# Altium integrated library Renesas Microprocessor SuperH.IntLib: 433 symbols (part 2 of 62)
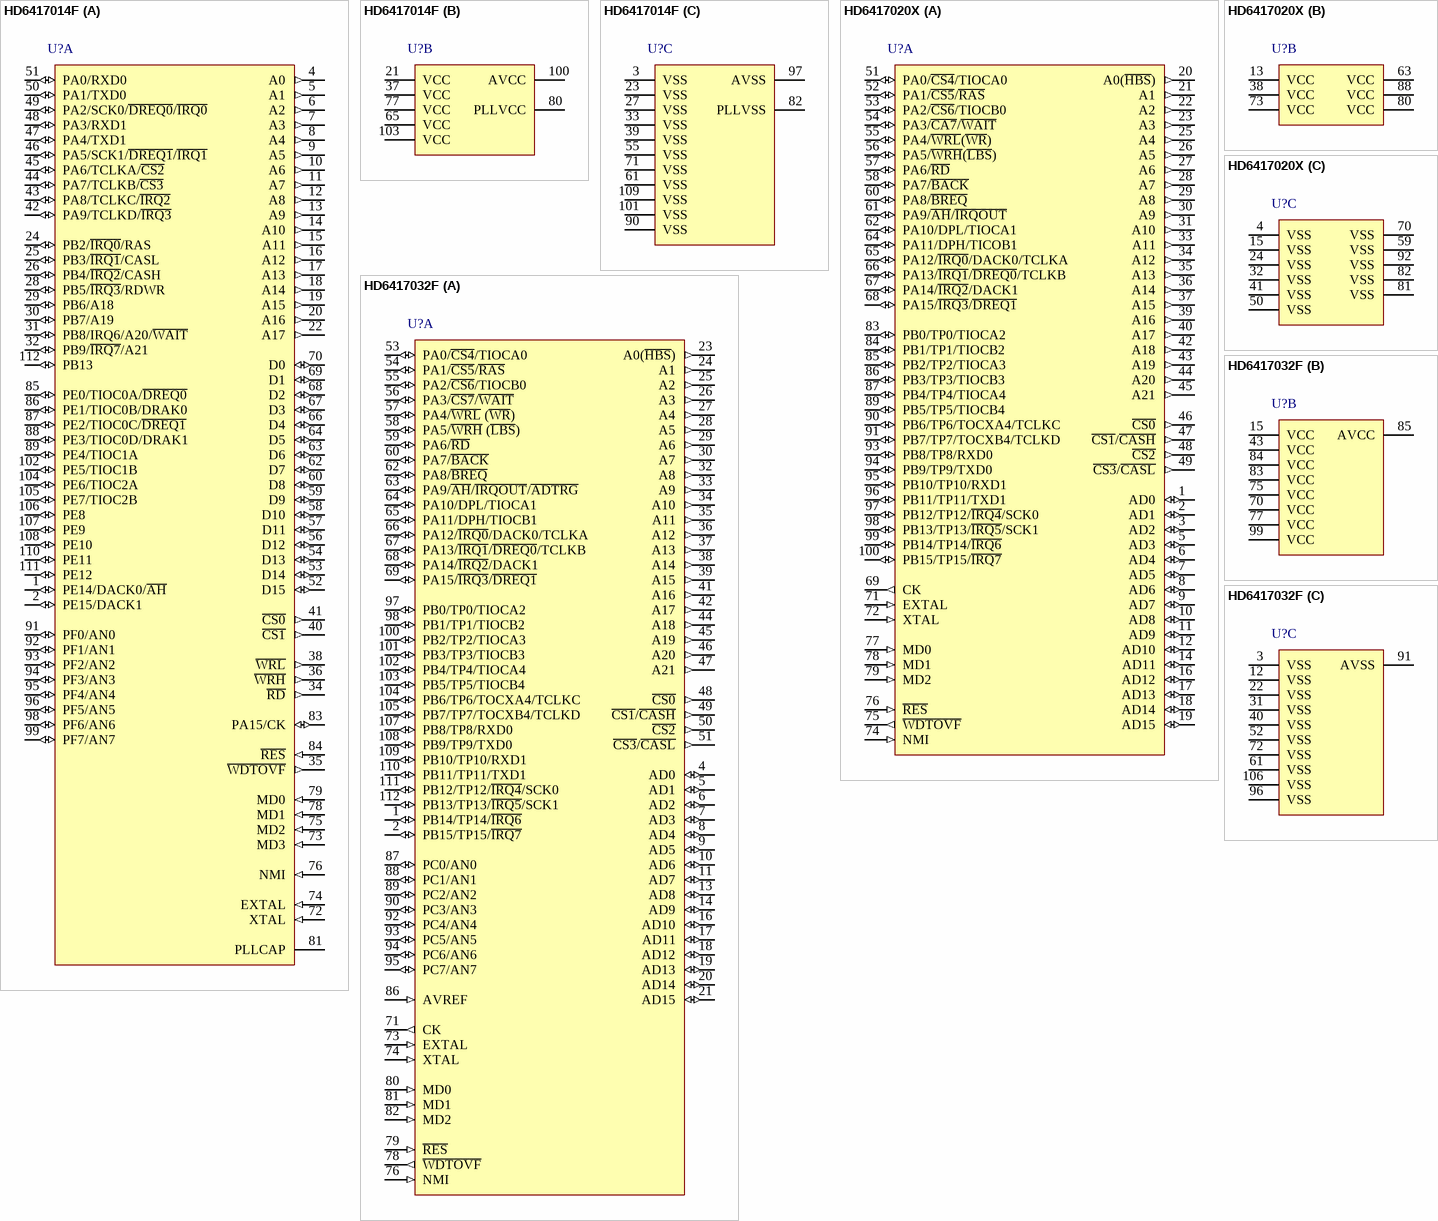
[diagram p106: symbols HD6417014F to HD6417032F]

## HD6417020X
designator U?
32-Bit RISC Microcomputer, SH7020 Series, SH-1 core, 20MHz, 1K RAM, PTQP0100KA-A (TFP-100B) Package; Published: 28-Aug-2009; DatasheetVersion: Rev.3.0, Apr-2003; PackageVersion: Sep-2005; PackageReference: PTQP0100KA-A; Publisher: Altium Limited; PackageDescription: 100-Pin Plastic Thin Quad Flat Pack, 14 x 14 x 1.0 mm Body, 0.5 mm Pitch; Code_JEITA: P-TQFP100-14x14-0.50; ComponentLink1Description: Manufacturer Link; ComponentLink1URL: http://www.renesas.com/fmwk.jsp?cnt=sh7020_root.jsp&fp=/products/mpumcu/superh_family/sh7020_series/sh7020_group/; ComponentLink2Description: Datasheet; ComponentLink2URL: http://documentation.renesas.com/eng/products/mpumcu/e602074_sh7020.pdf; ComponentLink3Description: Packaging Specification; ComponentLink3URL: http://sg.renesas.com/media/products/common_info/package/pdf/ic/code/ptqp0100ka_a.pdf
footprint PTQP0100KA-A_N (Thin QFP, 100-Leads, Body 14x14mm, Pitch 0.5mm, IPC Medium Density)
footprint PTQP0100KA-A_L (Thin QFP, 100-Leads, Body 14x14mm, Pitch 0.5mm, IPC High Density)
footprint PTQP0100KA-A_M (Thin QFP, 100-Leads, Body 14x14mm, Pitch 0.5mm, IPC Low Density)
part A pins: 1 AD0 (io), 2 AD1 (io), 3 AD2 (io), 5 AD3 (io), 6 AD4 (io), 7 AD5 (io), 8 AD6 (io), 9 AD7 (io), 10 AD8 (io), 11 AD9 (io), 12 AD10 (io), 14 AD11 (io), 16 AD12 (io), 17 AD13 (io), 18 AD14 (io), 19 AD15 (io), 20 A0(~{HBS}) (out), 21 A1 (out), 22 A2 (out), 23 A3 (out), 25 A4 (out), 26 A5 (out), 27 A6 (out), 28 A7 (out), 29 A8 (out), 30 A9 (out), 31 A10 (out), 33 A11 (out), 34 A12 (out), 35 A13 (out), 36 A14 (out), 37 A15 (out), 39 A16 (out), 40 A17 (out), 42 A18 (out), 43 A19 (out), 44 A20 (out), 45 A21 (out), 46 ~{CS0} (out), 47 ~{CS1}/~{CASH} (out), 48 ~{CS2} (out), 49 ~{CS3}/~{CASL} (out), 51 PA0/~{CS4}/TIOCA0 (io), 52 PA1/~{CS5}/~{RAS} (io), 53 PA2/~{CS6}/TIOCB0 (io), 54 PA3/~{CA7}/~{WAIT} (io), 55 PA4/~{WRL}(~{WR}) (io), 56 PA5/~{WRH}(~{LBS}) (io), 57 PA6/~{RD} (io), 58 PA7/~{BACK} (io), 60 PA8/~{BREQ} (io), 61 PA9/~{AH}/~{IRQOUT} (io), 62 PA10/DPL/TIOCA1 (io), 64 PA11/DPH/TICOB1 (io), 65 PA12/~{IRQ0}/DACK0/TCLKA (io), 66 PA13/~{IRQ1}/~{DREQ0}/TCLKB (io), 67 PA14/~{IRQ2}/DACK1 (io), 68 PA15/~{IRQ3}/~{DREQ1} (io), 69 CK (out), 71 EXTAL (in), 72 XTAL (in), 74 NMI (in), 75 ~{WDTOVF} (out), 76 ~{RES} (in), 77 MD0 (in), 78 MD1 (in), 79 MD2 (in), 83 PB0/TP0/TIOCA2 (io), 84 PB1/TP1/TIOCB2 (io), 85 PB2/TP2/TIOCA3 (io), 86 PB3/TP3/TIOCB3 (io), 87 PB4/TP4/TIOCA4 (io), 89 PB5/TP5/TIOCB4 (io), 90 PB6/TP6/TOCXA4/TCLKC (io), 91 PB7/TP7/TOCXB4/TCLKD (io), 93 PB8/TP8/RXD0 (io), 94 PB9/TP9/TXD0 (io), 95 PB10/TP10/RXD1 (io), 96 PB11/TP11/TXD1 (io), 97 PB12/TP12/~{IRQ4}/SCK0 (io), 98 PB13/TP13/~{IRQ5}/SCK1 (io), 99 PB14/TP14/~{IRQ6} (io), 100 PB15/TP15/~{IRQ7} (io)
part B pins: 13 VCC (power), 38 VCC (power), 63 VCC (power), 73 VCC (power), 80 VCC (power), 88 VCC (power)
part C pins: 4 VSS (power), 15 VSS (power), 24 VSS (power), 32 VSS (power), 41 VSS (power), 50 VSS (power), 59 VSS (power), 70 VSS (power), 81 VSS (power), 82 VSS (power), 92 VSS (power)

## HD6417032F
designator U?
32-Bit RISC Microcomputer, SH7030 Series, SH-1 core, 20MHz, 4K RAM, PRQP0112JA-A (FP-112) Package; Published: 28-Aug-2009; DatasheetVersion: Rev.7.00, Jan-2006; PackageVersion: Sep-2005; PackageReference: PRQP0112JA-A; Publisher: Altium Limited; PackageDescription: 112-Pin Plastic Quad Flat Pack, 20 x 20 x 2.7 mm Body, 0.65 mm Pitch; Code_JEITA: P-QFP112-20x20-0.65; ComponentLink1Description: Manufacturer Link; ComponentLink1URL: http://www.renesas.com/fmwk.jsp?cnt=sh7032_root.jsp&fp=/products/mpumcu/superh_family/sh7030_series/sh7032_group/; ComponentLink2Description: Datasheet; ComponentLink2URL: http://documentation.renesas.com/eng/products/mpumcu/rej09b0272_7032hm.pdf; ComponentLink3Description: Packaging Specification; ComponentLink3URL: http://sg.renesas.com/media/products/common_info/package/pdf/ic/code/prqp0112ja_a.pdf
footprint PRQP0112JA-A_N (QFP, 112-Leads, Body 20x20mm, Pitch 0.65mm, IPC Medium Density)
footprint PRQP0112JA-A_L (QFP, 112-Leads, Body 20x20mm, Pitch 0.65mm, IPC High Density)
footprint PRQP0112JA-A_M (QFP, 112-Leads, Body 20x20mm, Pitch 0.65mm, IPC Low Density)
part A pins: 1 PB14/TP14/~{IRQ6} (io), 2 PB15/TP15/~{IRQ7} (io), 4 AD0 (io), 5 AD1 (io), 6 AD2 (io), 7 AD3 (io), 8 AD4 (io), 9 AD5 (io), 10 AD6 (io), 11 AD7 (io), 13 AD8 (io), 14 AD9 (io), 16 AD10 (io), 17 AD11 (io), 18 AD12 (io), 19 AD13 (io), 20 AD14 (io), 21 AD15 (io), 23 A0(~{HBS}) (out), 24 A1 (out), 25 A2 (out), 26 A3 (out), 27 A4 (out), 28 A5 (out), 29 A6 (out), 30 A7 (out), 32 A8 (out), 33 A9 (out), 34 A10 (out), 35 A11 (out), 36 A12 (out), 37 A13 (out), 38 A14 (out), 39 A15 (out), 41 A16 (out), 42 A17 (out), 44 A18 (out), 45 A19 (out), 46 A20 (out), 47 A21 (out), 48 ~{CS0} (out), 49 ~{CS1}/~{CASH} (out), 50 ~{CS2} (out), 51 ~{CS3}/~{CASL} (out), 53 PA0/~{CS4}/TIOCA0 (io), 54 PA1/~{CS5}/~{RAS} (io), 55 PA2/~{CS6}/TIOCB0 (io), 56 PA3/~{CS7}/~{WAIT} (io), 57 PA4/~{WRL} (~{WR}) (io), 58 PA5/~{WRH} (~{LBS}) (io), 59 PA6/~{RD} (io), 60 PA7/~{BACK} (io), 62 PA8/~{BREQ} (io), 63 PA9/~{AH}/~{IRQOUT}/~{ADTRG} (io), 64 PA10/DPL/TIOCA1 (io), 65 PA11/DPH/TIOCB1 (io), 66 PA12/~{IRQ0}/DACK0/TCLKA (io), 67 PA13/~{IRQ1}/~{DREQ0}/TCLKB (io), 68 PA14/~{IRQ2}/DACK1 (io), 69 PA15/~{IRQ3}/~{DREQ1} (io), 71 CK (out), 73 EXTAL (in), 74 XTAL (in), 76 NMI (in), 78 ~{WDTOVF} (out), 79 ~{RES} (in), 80 MD0 (in), 81 MD1 (in), 82 MD2 (in), 86 AVREF (in), 87 PC0/AN0 (io), 88 PC1/AN1 (io), 89 PC2/AN2 (io), 90 PC3/AN3 (io), 92 PC4/AN4 (io), 93 PC5/AN5 (io), 94 PC6/AN6 (io), 95 PC7/AN7 (io), 97 PB0/TP0/TIOCA2 (io), 98 PB1/TP1/TIOCB2 (io), 100 PB2/TP2/TIOCA3 (io), 101 PB3/TP3/TIOCB3 (io), 102 PB4/TP4/TIOCA4 (io), 103 PB5/TP5/TIOCB4 (io), 104 PB6/TP6/TOCXA4/TCLKC (io), 105 PB7/TP7/TOCXB4/TCLKD (io), 107 PB8/TP8/RXD0 (io), 108 PB9/TP9/TXD0 (io), 109 PB10/TP10/RXD1 (io), 110 PB11/TP11/TXD1 (io), 111 PB12/TP12/~{IRQ4}/SCK0 (io), 112 PB13/TP13/~{IRQ5}/SCK1 (io)
part B pins: 15 VCC (power), 43 VCC (power), 70 VCC (power), 75 VCC (power), 77 VCC (power), 83 VCC (power), 84 VCC (power), 85 AVCC (power), 99 VCC (power)
part C pins: 3 VSS (power), 12 VSS (power), 22 VSS (power), 31 VSS (power), 40 VSS (power), 52 VSS (power), 61 VSS (power), 72 VSS (power), 91 AVSS (power), 96 VSS (power), 106 VSS (power)

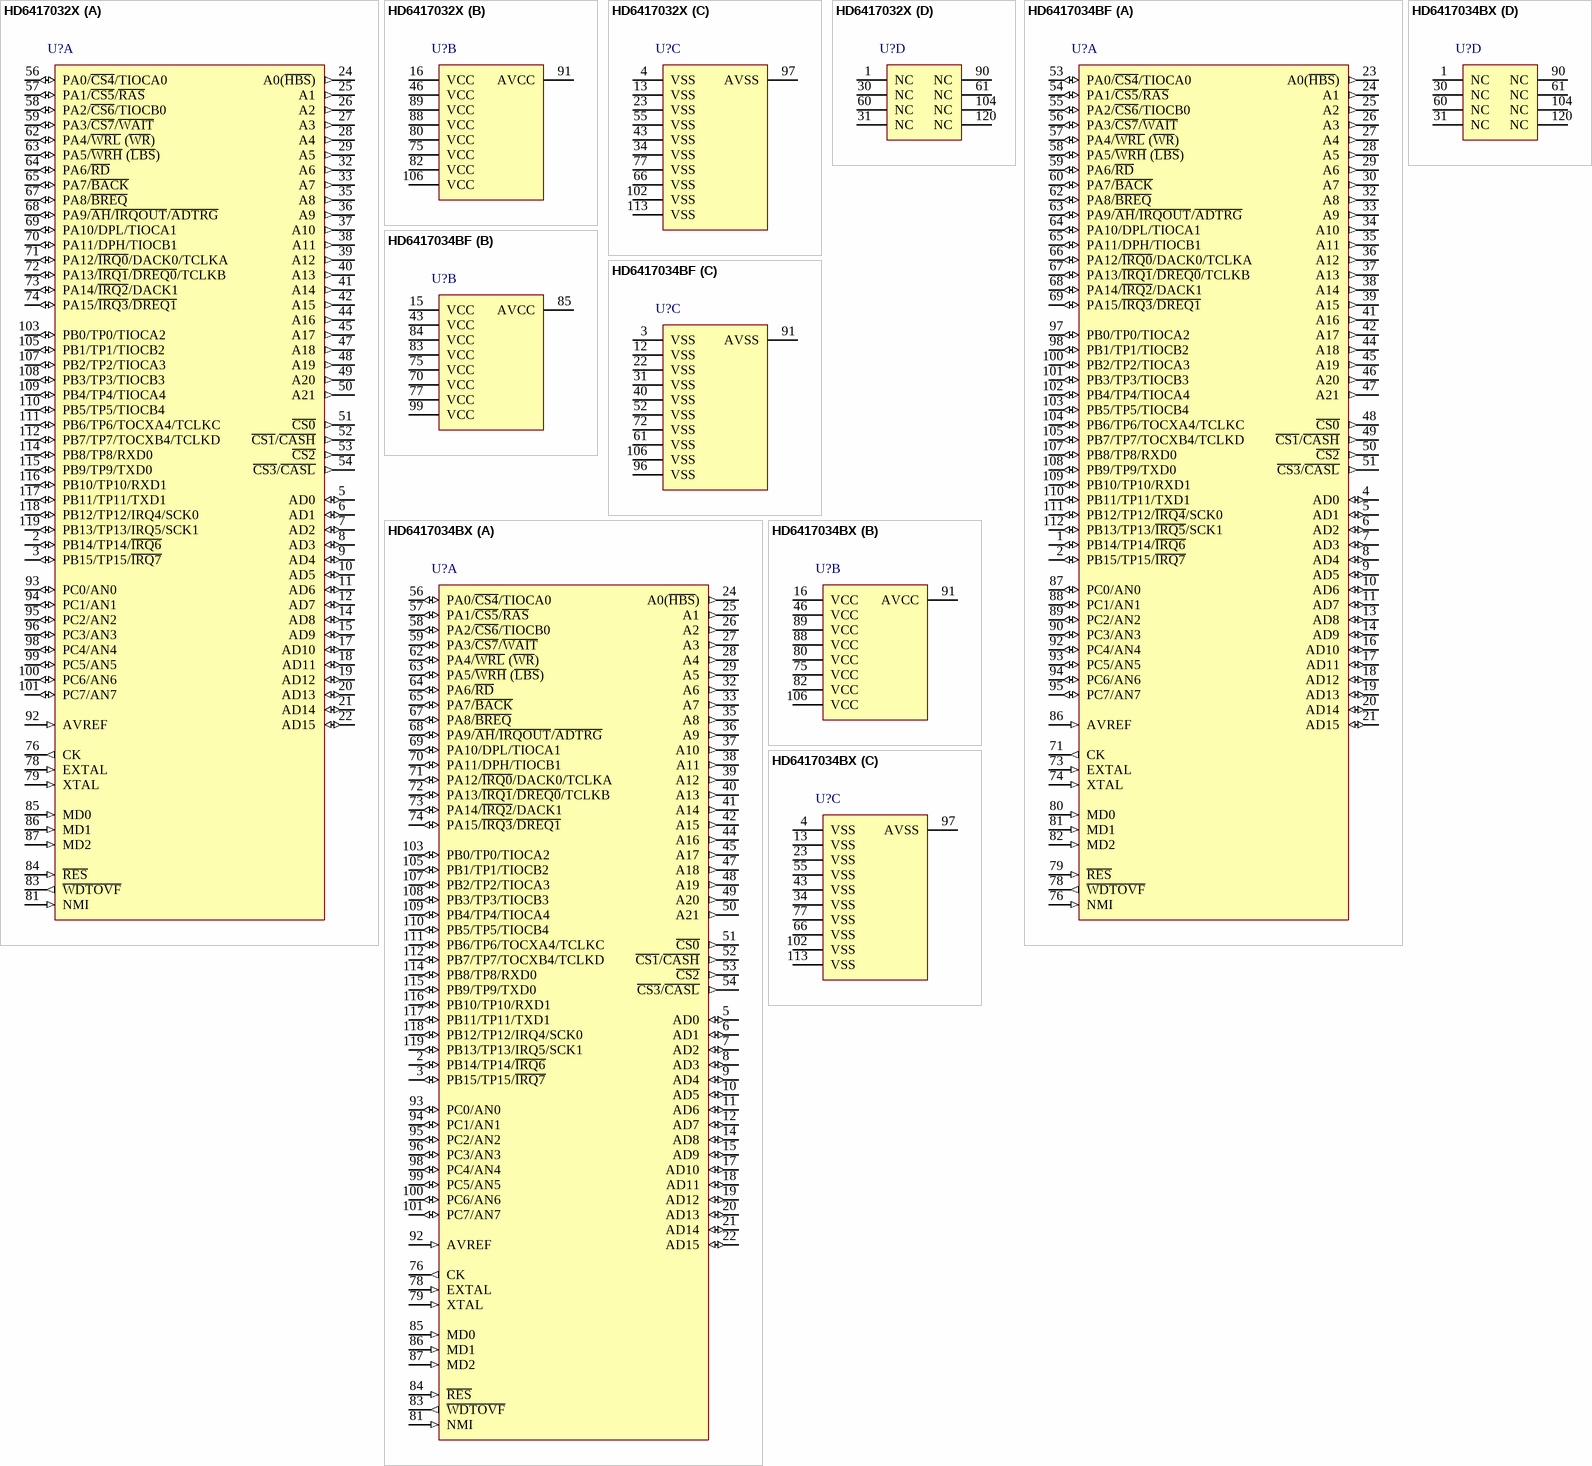
[diagram p6: symbols HD6417032X to HD6417034BX]

## HD6417032X
designator U?
32-Bit RISC Microcomputer, SH7030 Series, SH-1 core, 20MHz, 4K RAM, PTQP0120LA-A (TFP-120) Package; Published: 28-Aug-2009; DatasheetVersion: Rev.7.00, Jan-2006; PackageVersion: Sep-2005; PackageReference: PTQP0120LA-A; Publisher: Altium Limited; PackageDescription: 120-Pin Plastic Thin QFP, 14 x 14 x 1.0 mm Body, 0.4 mm Pitch; Code_JEITA: P-TQFP120-14x14-0.40; ComponentLink1Description: Manufacturer Link; ComponentLink1URL: http://www.renesas.com/fmwk.jsp?cnt=sh7032_root.jsp&fp=/products/mpumcu/superh_family/sh7030_series/sh7032_group/; ComponentLink2Description: Datasheet; ComponentLink2URL: http://documentation.renesas.com/eng/products/mpumcu/rej09b0272_7032hm.pdf; ComponentLink3Description: Packaging Specification; ComponentLink3URL: http://sg.renesas.com/media/products/common_info/package/pdf/ic/code/ptqp0120la_a.pdf
footprint PTQP0120LA-A_N (Thin QFP, 120-Leads, Body 14x14mm, Pitch 0.4mm, IPC Medium Density)
footprint PTQP0120LA-A_L (Thin QFP, 120-Leads, Body 14x14mm, Pitch 0.4mm, IPC High Density)
footprint PTQP0120LA-A_M (Thin QFP, 120-Leads, Body 14x14mm, Pitch 0.4mm, IPC Low Density)
part A pins: 2 PB14/TP14/~{IRQ6} (io), 3 PB15/TP15/~{IRQ7} (io), 5 AD0 (io), 6 AD1 (io), 7 AD2 (io), 8 AD3 (io), 9 AD4 (io), 10 AD5 (io), 11 AD6 (io), 12 AD7 (io), 14 AD8 (io), 15 AD9 (io), 17 AD10 (io), 18 AD11 (io), 19 AD12 (io), 20 AD13 (io), 21 AD14 (io), 22 AD15 (io), 24 A0(~{HBS}) (out), 25 A1 (out), 26 A2 (out), 27 A3 (out), 28 A4 (out), 29 A5 (out), 32 A6 (out), 33 A7 (out), 35 A8 (out), 36 A9 (out), 37 A10 (out), 38 A11 (out), 39 A12 (out), 40 A13 (out), 41 A14 (out), 42 A15 (out), 44 A16 (out), 45 A17 (out), 47 A18 (out), 48 A19 (out), 49 A20 (out), 50 A21 (out), 51 ~{CS0} (out), 52 ~{CS1}/~{CASH} (out), 53 ~{CS2} (out), 54 ~{CS3}/~{CASL} (out), 56 PA0/~{CS4}/TIOCA0 (io), 57 PA1/~{CS5}/~{RAS} (io), 58 PA2/~{CS6}/TIOCB0 (io), 59 PA3/~{CS7}/~{WAIT} (io), 62 PA4/~{WRL} (~{WR}) (io), 63 PA5/~{WRH} (~{LBS}) (io), 64 PA6/~{RD} (io), 65 PA7/~{BACK} (io), 67 PA8/~{BREQ} (io), 68 PA9/~{AH}/~{IRQOUT}/~{ADTRG} (io), 69 PA10/DPL/TIOCA1 (io), 70 PA11/DPH/TIOCB1 (io), 71 PA12/~{IRQ0}/DACK0/TCLKA (io), 72 PA13/~{IRQ1}/~{DREQ0}/TCLKB (io), 73 PA14/~{IRQ2}/DACK1 (io), 74 PA15/~{IRQ3}/~{DREQ1} (io), 76 CK (out), 78 EXTAL (in), 79 XTAL (in), 81 NMI (in), 83 ~{WDTOVF} (out), 84 ~{RES} (in), 85 MD0 (in), 86 MD1 (in), 87 MD2 (in), 92 AVREF (in), 93 PC0/AN0 (io), 94 PC1/AN1 (io), 95 PC2/AN2 (io), 96 PC3/AN3 (io), 98 PC4/AN4 (io), 99 PC5/AN5 (io), 100 PC6/AN6 (io), 101 PC7/AN7 (io), 103 PB0/TP0/TIOCA2 (io), 105 PB1/TP1/TIOCB2 (io), 107 PB2/TP2/TIOCA3 (io), 108 PB3/TP3/TIOCB3 (io), 109 PB4/TP4/TIOCA4 (io), 110 PB5/TP5/TIOCB4 (io), 111 PB6/TP6/TOCXA4/TCLKC (io), 112 PB7/TP7/TOCXB4/TCLKD (io), 114 PB8/TP8/RXD0 (io), 115 PB9/TP9/TXD0 (io), 116 PB10/TP10/RXD1 (io), 117 PB11/TP11/TXD1 (io), 118 PB12/TP12/IRQ4/SCK0 (io), 119 PB13/TP13/IRQ5/SCK1 (io)
part B pins: 16 VCC (power), 46 VCC (power), 75 VCC (power), 80 VCC (power), 82 VCC (power), 88 VCC (power), 89 VCC (power), 91 AVCC (power), 106 VCC (power)
part C pins: 4 VSS (power), 13 VSS (power), 23 VSS (power), 34 VSS (power), 43 VSS (power), 55 VSS (power), 66 VSS (power), 77 VSS (power), 97 AVSS (power), 102 VSS (power), 113 VSS (power)
part D pins: 1 NC, 30 NC, 31 NC, 60 NC, 61 NC, 90 NC, 104 NC, 120 NC

## HD6417034BF
designator U?
32-Bit RISC Microcomputer, SH7030 Series, SH-1 core, 20MHz, 4K RAM, PRQP0112JA-A (FP-112) Package; Published: 28-Aug-2009; DatasheetVersion: Rev.7.00, Jan-2006; PackageVersion: Sep-2005; PackageReference: PRQP0112JA-A; Publisher: Altium Limited; PackageDescription: 112-Pin Plastic Quad Flat Pack, 20 x 20 x 2.7 mm Body, 0.65 mm Pitch; Code_JEITA: P-QFP112-20x20-0.65; ComponentLink1Description: Manufacturer Link; ComponentLink1URL: http://www.renesas.com/fmwk.jsp?cnt=sh7032_root.jsp&fp=/products/mpumcu/superh_family/sh7030_series/sh7032_group/; ComponentLink2Description: Datasheet; ComponentLink2URL: http://documentation.renesas.com/eng/products/mpumcu/rej09b0272_7032hm.pdf; ComponentLink3Description: Packaging Specification; ComponentLink3URL: http://sg.renesas.com/media/products/common_info/package/pdf/ic/code/prqp0112ja_a.pdf
footprint PRQP0112JA-A_N (QFP, 112-Leads, Body 20x20mm, Pitch 0.65mm, IPC Medium Density)
footprint PRQP0112JA-A_L (QFP, 112-Leads, Body 20x20mm, Pitch 0.65mm, IPC High Density)
footprint PRQP0112JA-A_M (QFP, 112-Leads, Body 20x20mm, Pitch 0.65mm, IPC Low Density)
part A pins: 1 PB14/TP14/~{IRQ6} (io), 2 PB15/TP15/~{IRQ7} (io), 4 AD0 (io), 5 AD1 (io), 6 AD2 (io), 7 AD3 (io), 8 AD4 (io), 9 AD5 (io), 10 AD6 (io), 11 AD7 (io), 13 AD8 (io), 14 AD9 (io), 16 AD10 (io), 17 AD11 (io), 18 AD12 (io), 19 AD13 (io), 20 AD14 (io), 21 AD15 (io), 23 A0(~{HBS}) (out), 24 A1 (out), 25 A2 (out), 26 A3 (out), 27 A4 (out), 28 A5 (out), 29 A6 (out), 30 A7 (out), 32 A8 (out), 33 A9 (out), 34 A10 (out), 35 A11 (out), 36 A12 (out), 37 A13 (out), 38 A14 (out), 39 A15 (out), 41 A16 (out), 42 A17 (out), 44 A18 (out), 45 A19 (out), 46 A20 (out), 47 A21 (out), 48 ~{CS0} (out), 49 ~{CS1}/~{CASH} (out), 50 ~{CS2} (out), 51 ~{CS3}/~{CASL} (out), 53 PA0/~{CS4}/TIOCA0 (io), 54 PA1/~{CS5}/~{RAS} (io), 55 PA2/~{CS6}/TIOCB0 (io), 56 PA3/~{CS7}/~{WAIT} (io), 57 PA4/~{WRL} (~{WR}) (io), 58 PA5/~{WRH} (~{LBS}) (io), 59 PA6/~{RD} (io), 60 PA7/~{BACK} (io), 62 PA8/~{BREQ} (io), 63 PA9/~{AH}/~{IRQOUT}/~{ADTRG} (io), 64 PA10/DPL/TIOCA1 (io), 65 PA11/DPH/TIOCB1 (io), 66 PA12/~{IRQ0}/DACK0/TCLKA (io), 67 PA13/~{IRQ1}/~{DREQ0}/TCLKB (io), 68 PA14/~{IRQ2}/DACK1 (io), 69 PA15/~{IRQ3}/~{DREQ1} (io), 71 CK (out), 73 EXTAL (in), 74 XTAL (in), 76 NMI (in), 78 ~{WDTOVF} (out), 79 ~{RES} (in), 80 MD0 (in), 81 MD1 (in), 82 MD2 (in), 86 AVREF (in), 87 PC0/AN0 (io), 88 PC1/AN1 (io), 89 PC2/AN2 (io), 90 PC3/AN3 (io), 92 PC4/AN4 (io), 93 PC5/AN5 (io), 94 PC6/AN6 (io), 95 PC7/AN7 (io), 97 PB0/TP0/TIOCA2 (io), 98 PB1/TP1/TIOCB2 (io), 100 PB2/TP2/TIOCA3 (io), 101 PB3/TP3/TIOCB3 (io), 102 PB4/TP4/TIOCA4 (io), 103 PB5/TP5/TIOCB4 (io), 104 PB6/TP6/TOCXA4/TCLKC (io), 105 PB7/TP7/TOCXB4/TCLKD (io), 107 PB8/TP8/RXD0 (io), 108 PB9/TP9/TXD0 (io), 109 PB10/TP10/RXD1 (io), 110 PB11/TP11/TXD1 (io), 111 PB12/TP12/~{IRQ4}/SCK0 (io), 112 PB13/TP13/~{IRQ5}/SCK1 (io)
part B pins: 15 VCC (power), 43 VCC (power), 70 VCC (power), 75 VCC (power), 77 VCC (power), 83 VCC (power), 84 VCC (power), 85 AVCC (power), 99 VCC (power)
part C pins: 3 VSS (power), 12 VSS (power), 22 VSS (power), 31 VSS (power), 40 VSS (power), 52 VSS (power), 61 VSS (power), 72 VSS (power), 91 AVSS (power), 96 VSS (power), 106 VSS (power)